# Altium footprint library HE7XX.PcbLib: 1 footprints
Each footprint in its own frame and in the unit in brackets; x right, y up, seen from the top. Pads: shape width x height; smd on the part's side, far side on the other; paste and mask are expansions set on the pad; w line width, h text height; cw(c..) or ccw(c..) is an arc to the next point about the centre after c.
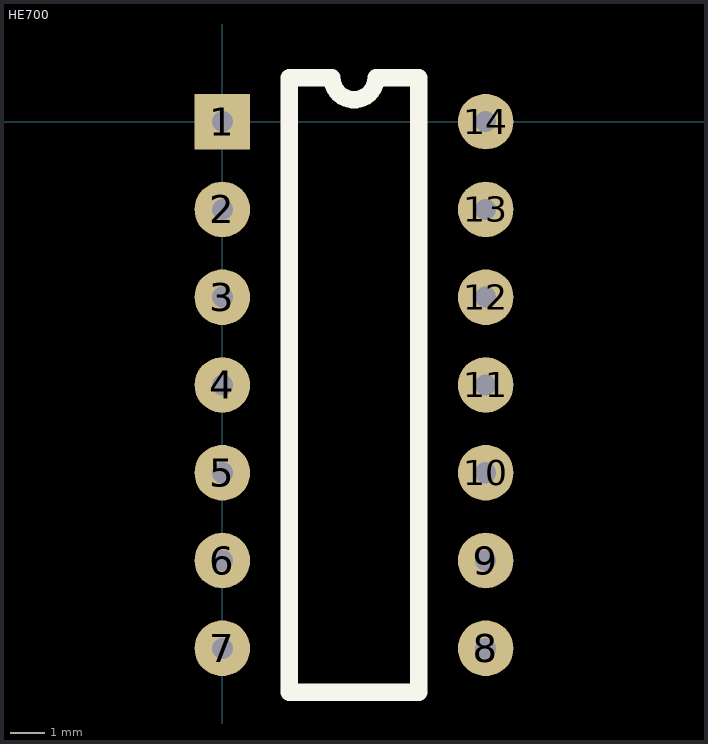
[diagram p0: the footprint, top view; thin cyan lines are the x and y axes]

## HE700 [mm] "HE700 Miniature Dual In-line Reed Relay"
height 9
pads (14):
  rect 1.61x1.61 hole 0.61: 1(0,0)
  round 1.61 hole 0.61: 2(0,-2.54) 3(0,-5.08) 4(0,-7.62) 5(0,-10.16) 6(0,-12.7) 7(0,-15.24) 8(7.62,-15.24) 9(7.62,-12.7) 10(7.62,-10.16) 11(7.62,-7.62) 12(7.62,-5.08) 13(7.62,-2.54) 14(7.62,0)
Top Overlay:
  lines w0.5: 1.94,-16.51 1.94,1.27 3.175,1.27 ccw(c3.81,1.27) 4.445,1.27 5.68,1.27 5.68,-16.51 1.94,-16.51
3D body: height 5.82, standoff 0.51, extent 1.939,-16.511 5.681,1.271
3D body: height 5.82, standoff 0.51, extent 1.939,-16.511 5.681,1.271
3D body: height 5.82, standoff 0.51, extent 1.939,-16.511 5.681,1.271
3D body: height 5.82, standoff 0.51, extent 1.939,-16.511 5.681,1.271